# Altium integrated library Altera APEX 20KE.IntLib: 235 symbols (part 40 of 49)
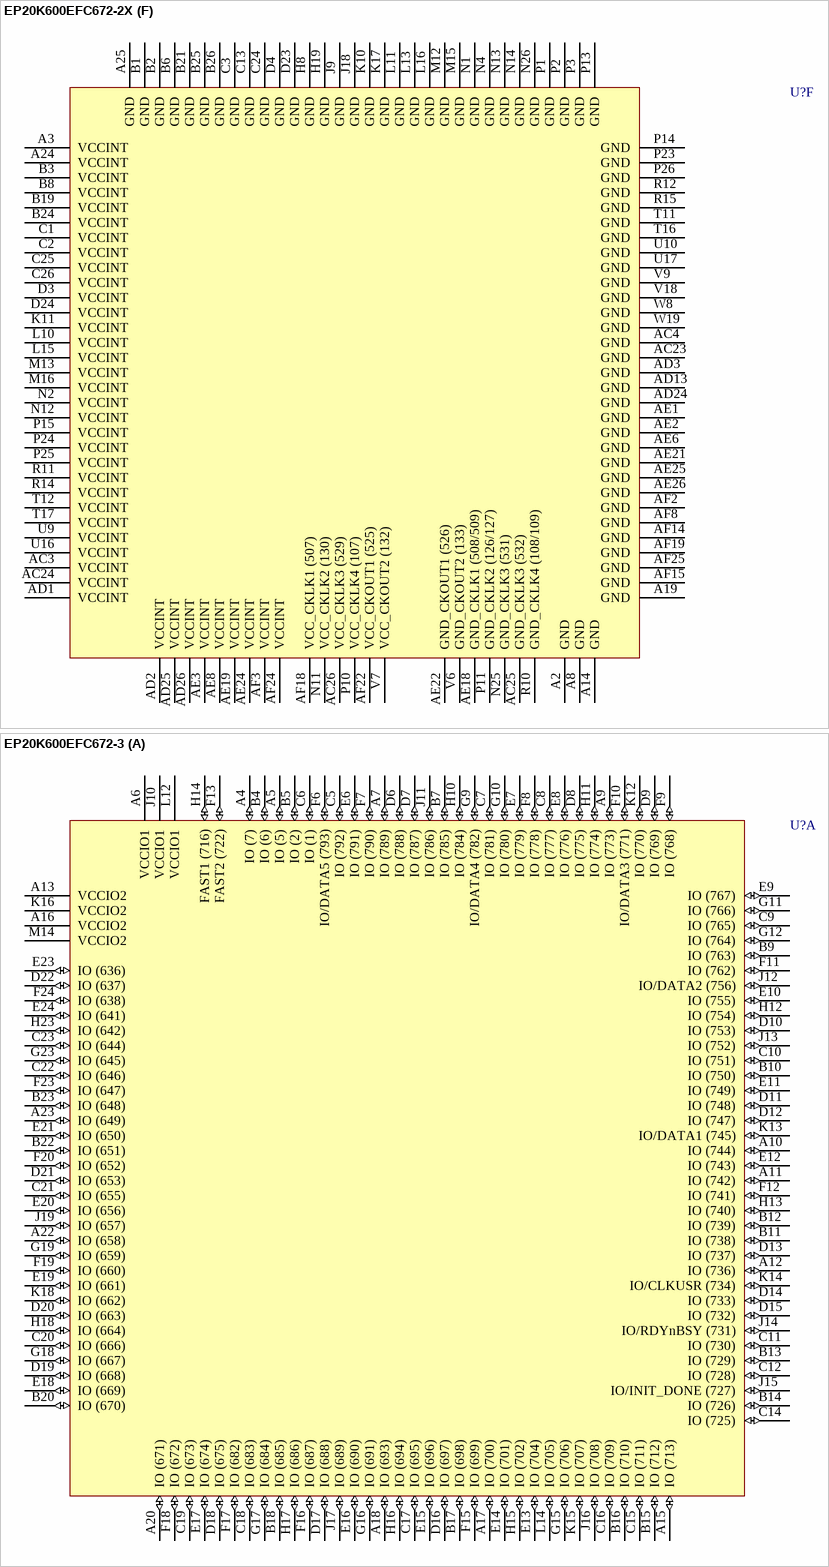
[diagram p438: symbols EP20K600EFC672-2X to EP20K600EFC672-3]

## EP20K1000EBC652-2X
designator U?
APEX 20K1000E PLD with PLLs and LVDS, 652-Pin BGA, Commercial Grade, Speed Grade 2; Published: 17-Jul-2002; LatestRevisionDate: 13-Apr-2006; LatestRevisionNote: IPC-7351 Footprint Added.; DatasheetVersion: Mar-2004; PackageVersion: ver14.1, Oct-2005; PackageReference: BGA652; Publisher: Altium Limited; PackageDescription: 652-Ball Ball Grid Array (BGA652); Code_JEDEC: MO-192-BAW-1; ComponentLink1Description: Manufacturer Link; ComponentLink1URL: http://www.altera.com/products/devices/apex/apx-index.html; ComponentLink2Description: Datasheet; ComponentLink2URL: http://www.altera.com/literature/ds/apex.pdf
footprint BGA652 (BGA, 652-Leads, Body 45x45mm, Pitch 1.27mm)
3D model EP20K1000E-BGA652TU (652-Ball Ball Grid Array (BGA652))
part A pins: A2 IO (935) (io), A3 IO (928) (io), A4 IO (920) (io), A5 IO (916) (io), A6 IO (905) (io), A7 IO (898) (io), A8 IO/DATA2 (887) (io), A9 IO (882) (io), A10 IO (873) (io), A11 IO (864) (io), A12 IO (860) (io), A13 IO (858) (io), A14 IO/RDYNBSY (847) (io), A15 IO (845) (io), A16 IO (838) (io), A20 IO (825) (io), A21 IO (818) (io), A22 IO (816) (io), A23 IO (805) (io), A24 IO (803) (io), A25 IO (799) (io), A26 IO (790) (io), A27 IO (781) (io), A28 IO (776) (io), A29 IO (764) (io), A30 IO (757) (io), A31 IO (746) (io), A32 IO (742) (io), A33 IO (734) (io), A34 IO (727) (io), B3 IO (938) (io), B4 IO (934) (io), B5 IO/DATA4 (924) (io), B6 IO (917) (io), B7 IO/DATA3 (907) (io), B8 IO (899) (io), B9 IO (893) (io), B10 IO (883) (io), B11 IO (878) (io), B12 IO (868) (io), B13 IO (861) (io), B14 IO (848) (io), B15 IO (846) (io), B16 IO (840) (io), B17 FAST2 (835) (io), B19 FAST1 (829) (io), B20 IO (823) (io), B21 IO (817) (io), B22 IO (815) (io), B23 IO (802) (io), B24 IO (795) (io), B25 IO (785) (io), B26 IO (780) (io), B27 IO (769) (io), B28 IO (763) (io), B29 IO (755) (io), B30 IO (745) (io), B31 IO (738) (io), B32 IO (728) (io), B33 IO (724) (io), C4 VCCIO1 (power), C5 IO (936) (io), C6 IO (930) (io), C7 IO (918) (io), C8 IO (910) (io), C9 IO (901) (io), C10 IO (895) (io), C11 IO (885) (io), C12 IO (879) (io), C13 IO/DATA1 (870) (io), C14 IO (862) (io), C15 IO/CLKUSR (852) (io), C16 IO/INIT_DONE (842) (io), C20 IO (821) (io), C21 IO (811) (io), C22 IO (801) (io), C23 IO (793) (io), C24 IO (784) (io), C25 IO (778) (io), C26 IO (767) (io), C27 IO (761) (io), C28 IO (752) (io), C29 IO (744) (io), C30 IO (732) (io), C31 IO (726) (io), C32 VCCIO2 (power), D5 VCCIO1 (power), D6 IO (940) (io), D7 IO (932) (io), D8 IO (919) (io), D9 IO (914) (io), D10 IO (902) (io), D11 IO (897) (io), D13 IO (880) (io), D14 IO (866) (io), D15 IO (856) (io), D16 IO (844) (io), D20 IO (819) (io), D21 IO (807) (io), D22 IO (797) (io), D23 IO (783) (io), D25 IO (765) (io), D26 IO (760) (io), D27 IO (748) (io), D28 IO (743) (io), D29 IO (730) (io), D30 IO (722) (io), D31 VCCIO2 (power), E7 IO/DATA5 (942) (io), E8 IO (933) (io), E9 IO (922) (io), E10 IO (912) (io), E11 IO (900) (io), E13 IO (881) (io), E14 IO (875) (io), E15 IO (863) (io), E16 IO (850) (io), E17 VCCIO1 (power), E19 VCCIO2 (power), E20 IO (813) (io), E21 IO (800) (io), E22 IO (788) (io), E23 IO (782) (io), E25 IO (762) (io), E26 IO (750) (io), E27 IO (740) (io), E28 IO (729) (io), E29 IO (720) (io)
part B pins: AA30 IO/LOCK1 (576) (io), AA32 IO (579) (io), AA33 IO (580) (io), AA34 IO (581) (io), AB30 IO (569) (io), AB31 IO (570) (io), AB32 IO (572) (io), AB33 IO (573) (io), AB34 IO (574) (io), AB35 IO (575) (io), AC30 IO (562) (io), AC31 IO (563) (io), AC33 IO (566) (io), AC34 IO (567) (io), AC35 IO (568) (io), AD30 IO (555) (io), AD31 IO (556) (io), AD32 IO (557) (io), AD33 IO (559) (io), AD34 IO (560) (io), AD35 IO (561) (io), AE30 IO (548) (io), AE31 IO (549) (io), AE32 IO (550) (io), AE34 IO (553) (io), AE35 IO (554) (io), AF30 IO (541) (io), AF31 IO (542) (io), AF32 IO (543) (io), AF33 IO (544) (io), AF34 IO (546) (io), AF35 IO (547) (io), AG30 IO (533) (io), AG31 IO (534) (io), AG32 IO (535) (io), AG33 IO (536) (io), AG34 IO (537) (io), AG35 IO (540) (io), AH30 IO (522) (io), AH32 IO (527) (io), AH33 IO (528) (io), AH34 IO (530) (io), AJ30 IO (501) (io), AJ31 IO (503) (io), AJ32 IO (507) (io), AJ33 IO (509) (io), AJ34 IO (520) (io), AJ35 IO (531) (io), AK30 IO (483) (io), AK31 IO (488) (io), AK32 IO (490) (io), AK34 IO (514) (io), AK35 IO (529) (io), AL31 VCCIO4 (power), AL32 VCCIO4 (power), AL33 IO (481) (io), AL34 IO (494) (io), AL35 IO (516) (io), AM35 IO (496) (io), D35 IO (700) (io), E34 IO (702) (io), E35 IO (683) (io), F30 VCCIO3 (power), F31 VCCIO3 (power), F32 IO (709) (io), F33 IO (707) (io), F34 IO (687) (io), G31 IO (696) (io), G32 IO (694) (io), G33 IO (689) (io), G34 IO (681) (io), G35 IO/LVDSRX16n (662) (io), H30 IO (676) (io), H31 IO (674) (io), H32 IO (670) (io), H33 IO (668) (io), H34 IO/LVDSRX16p (663) (io), H35 IO (655) (io), J30 IO (661) (io), J31 IO/LVDSRX15n (660) (io), J32 IO/LVDSRX15p (659) (io), J33 IO/LVDSRX14p (657) (io), J34 IO/LVDSRX14n (656) (io), J35 IO/LVDSRX13n (654) (io), K30 IO/LVDSRX13p (653) (io), K32 IO/LVDSRX12p (650) (io), K33 IO/LVDSRX12n (649) (io), K34 IO (648) (io), K35 IO/LVDSRX11n (647) (io), L30 IO/LVDSRX11p (646) (io), L31 IO/LVDSRX10p (644) (io), L32 IO/LVDSRX10n (643) (io), L33 IO (642) (io), L34 IO/LVDSRX09n (641) (io), L35 IO/LVDSRX09p (640) (io), M31 IO/LVDSRX08p (637) (io), M32 IO/LVDSRX08n (636) (io), M33 IO (635) (io), M34 IO/LVDSRX07n (634) (io), M35 IO/LVDSRX07p (633) (io), N30 IO/LVDSRX06p (631) (io), N31 IO/LVDSRX06n (630) (io), N32 IO (629) (io), N33 IO/LVDSRX05n (628) (io), N34 IO/LVDSRX05p (627) (io), P30 IO/LVDSRX04p (624) (io), P31 IO/LVDSRX04n (623) (io), P32 IO (622) (io), P33 IO/LVDSRX03n (621) (io), P34 IO/LVDSRX03p (620) (io), P35 IO/LVDSRX02p (618) (io), R30 IO/LVDSRX02n (617) (io), R31 IO/LOCK3 (616) (io), R32 IO/LVDSRX01n (615) (io), R33 IO/LVDSRX01p (614) (io), R35 IO (611) (io), T30 IO (610) (io), T31 IO/LVDSRXINCLK1n (609) (io), T32 IO/LVDSRXINCLK1p (608) (io), T35 IO/CLKLK_OUT1n (603) (io), U30 VCCIO3 (power), W30 VCCIO4 (power), W34 CLK1p (595) (in), Y31 IO/CLKLK_FB1n (586) (io), Y33 IO/CLK3n (588) (io), Y34 CLK3p (589) (in), Y35 IO/CLK1n (590) (io)
part C pins: AL7 IO (251) (io), AL8 IO (260) (io), AL9 IO (271) (io), AL10 IO (281) (io), AL11 IO (293) (io), AL13 IO (312) (io), AL14 IO (318) (io), AL15 IO (330) (io), AL16 IO (343) (io), AL17 VCCIO6 (power), AL19 VCCIO5 (power), AL20 IO (379) (io), AL21 IO (392) (io), AL22 IO (404) (io), AL23 IO (410) (io), AL25 IO (429) (io), AL26 IO (441) (io), AL27 IO (451) (io), AL28 IO (462) (io), AL29 IO (471) (io), AM5 VCCIO6 (power), AM6 IO (253) (io), AM7 IO (261) (io), AM8 IO (274) (io), AM9 IO (279) (io), AM10 IO (291) (io), AM11 IO (296) (io), AM13 IO (313) (io), AM14 IO (327) (io), AM15 IO (337) (io), AM16 IO/LVDSDESKEW (349) (io), AM20 IO (373) (io), AM21 IO (385) (io), AM22 IO (395) (io), AM23 IO (409) (io), AM25 IO (426) (io), AM26 IO (431) (io), AM27 IO (443) (io), AM28 IO (448) (io), AM29 IO (461) (io), AM30 IO (469) (io), AN4 VCCIO6 (power), AN5 IO (257) (io), AN6 IO (263) (io), AN7 IO (275) (io), AN8 IO (283) (io), AN9 IO (292) (io), AN10 IO (298) (io), AN11 IO (308) (io), AN12 IO (314) (io), AN13 IO (323) (io), AN14 IO (331) (io), AN15 IO (341) (io), AN16 IO (351) (io), AN20 IO (371) (io), AN21 IO (381) (io), AN22 IO (391) (io), AN23 IO (399) (io), AN24 IO (408) (io), AN25 IO (414) (io), AN26 IO (424) (io), AN27 IO (430) (io), AN28 IO (439) (io), AN29 IO (447) (io), AN30 IO (459) (io), AN31 IO (465) (io), AN32 VCCIO5 (power), AN33 VCCIO5 (power), AP3 IO (255) (io), AP4 IO (259) (io), AP5 IO (269) (io), AP6 IO (276) (io), AP7 IO (286) (io), AP8 IO (294) (io), AP9 IO (300) (io), AP10 IO (310) (io), AP11 IO (315) (io), AP12 IO (325) (io), AP13 IO (332) (io), AP14 IO (345) (io), AP15 IO (347) (io), AP16 IO (353) (io), AP17 FAST4 (358) (io), AP19 FAST3 (364) (io), AP20 IO (369) (io), AP21 IO (375) (io), AP22 IO (377) (io), AP23 IO (390) (io), AP24 IO (397) (io), AP25 IO (407) (io), AP26 IO (412) (io), AP27 IO (422) (io), AP28 IO (428) (io), AP29 IO (436) (io), AP30 IO (446) (io), AP31 IO (453) (io), AP32 IO (463) (io), AP33 IO (467) (io), AR2 IO (258) (io), AR3 IO (265) (io), AR4 IO (273) (io), AR5 IO (277) (io), AR6 IO (288) (io), AR7 IO (295) (io), AR8 IO (306) (io), AR9 IO (311) (io), AR10 IO (320) (io), AR11 IO (329) (io), AR12 IO (333) (io), AR13 IO (335) (io), AR14 IO (346) (io), AR15 IO (348) (io), AR16 IO (355) (io), AR20 IO (367) (io), AR21 IO (374) (io), AR22 IO (376) (io), AR23 IO (387) (io), AR24 IO (389) (io), AR25 IO (393) (io), AR26 IO (402) (io), AR27 IO (411) (io), AR28 IO (416) (io), AR29 IO (427) (io), AR30 IO (434) (io), AR31 IO (445) (io), AR32 IO (449) (io), AR33 IO (457) (io), AR34 IO (464) (io)
part D pins: AA1 IO (148) (io), AA2 IO/LVDSTXOUTCLK1n (142) (io), AA3 IO/LVDSTXOUTCLK1p (143) (io), AA5 IO/LVDSTX01p (146) (io), AA6 IO/LVDSTX01n (147) (io), AB1 IO (154) (io), AB2 IO/LVDSTX02n (149) (io), AB3 IO/LVDSTX02p (150) (io), AB4 IO/LVDSTX03p (152) (io), AB5 IO/LVDSTX03n (153) (io), AB6 IO/LOCK2 (141) (io), AC1 IO/LVDSTX04n (155) (io), AC2 IO/LVDSTX04p (156) (io), AC4 IO/LVDSTX05p (159) (io), AC5 IO/LVDSTX05n (160) (io), AC6 IO/LOCK4 (161) (io), AD1 IO/LVDSTX06n (162) (io), AD2 IO/LVDSTX06p (163) (io), AD3 IO/LVDSTX07p (165) (io), AD4 IO/LVDSTX07n (166) (io), AD5 IO (167) (io), AD6 IO/LVDSTX08n (168) (io), AE1 IO/LVDSTX08p (169) (io), AE3 IO/LVDSTX09p (172) (io), AE4 IO/LVDSTX09n (173) (io), AE5 IO (174) (io), AE6 IO/LVDSTX10n (175) (io), AF1 IO/LVDSTX10p (176) (io), AF2 IO/LVDSTX11p (178) (io), AF3 IO/LVDSTX11n (179) (io), AF4 IO (180) (io), AF5 IO/LVDSTX12n (181) (io), AF6 IO/LVDSTX12p (182) (io), AG2 IO/LVDSTX13n (186) (io), AG3 IO (187) (io), AG4 IO/LVDSTX14n (188) (io), AG5 IO/LVDSTX14p (189) (io), AG6 IO/LVDSTX15p (191) (io), AH1 IO/LVDSTX13p (185) (io), AH2 IO (193) (io), AH3 IO/LVDSTX16p (195) (io), AH5 IO (200) (io), AH6 IO (202) (io), AJ1 IO/LVDSTX15n (192) (io), AJ2 IO (206) (io), AJ3 IO (215) (io), AJ4 IO (219) (io), AJ5 IO (221) (io), AJ6 IO (226) (io), AK1 IO/LVDSTX16n (194) (io), AK2 IO (213) (io), AK3 IO (232) (io), AK4 IO (234) (io), AK5 IO (239) (io), AK6 IO (241) (io), AL1 IO (208) (io), AL3 VCCIO7 (power), AL4 VCCIO7 (power), AM1 IO (228) (io), C1 IO (20) (io), D1 IO (24) (io), E1 IO (46) (io), E2 IO (26) (io), E3 VCCIO8 (power), E4 VCCIO8 (power), F1 IO (59) (io), F2 IO (44) (io), F4 IO (18) (io), F5 IO (13) (io), F6 IO (11) (io), G1 IO (61) (io), G2 IO (50) (io), G3 IO (39) (io), G4 IO (37) (io), G5 IO (33) (io), G6 IO (31) (io), H2 IO (60) (io), H3 IO (58) (io), H4 IO (57) (io), H6 IO (52) (io), J1 IO (70) (io), J2 IO (67) (io), J3 IO (66) (io), J4 IO (65) (io), J5 IO (64) (io), J6 IO (63) (io), K1 IO (77) (io), K2 IO (76) (io), K3 IO (74) (io), K4 IO (73) (io), K5 IO (72) (io), K6 IO (71) (io), L1 IO (84) (io), L2 IO (83) (io), L4 IO (80) (io), L5 IO (79) (io), L6 IO/DATA6 (78) (io), M1 IO/nWS (91) (io), M2 IO (90) (io), M3 IO (89) (io), M4 IO (87) (io), M5 IO (86) (io), M6 IO/DATA7 (85) (io), N1 IO/nRS (98) (io), N2 IO (97) (io), N3 IO (96) (io), N5 IO (93) (io), N6 IO (92) (io), P1 IO (105) (io), P2 IO/nCS (104) (io), P3 IO (103) (io), P4 IO (102) (io), P5 IO (100) (io), P6 IO (99) (io), R1 IO (113) (io), R2 IO/CS (112) (io), R6 IO (106) (io), T1 IO/CLK2n (120) (io), T2 CLK4p (119) (in), T3 IO/CLK4n (118) (io), T5 IO/CLKLK_FB2n (116) (io), T6 IO/DEV_CLRn (114) (io), U2 CLK2p (125) (in), U6 VCCIO8 (power), W5 IO/LVDSTXINCLK1p (139) (io), W6 VCCIO7 (power), Y4 IO/CLKLK_OUT2n (137) (io), Y5 IO/DEV_OE (133) (io), Y6 IO/LVDSTXINCLK1n (140) (io)
part E pins: AM17 CONF_DONE (356) (io), AM19 TMS (366) (in), AN17 nSTATUS (357) (io), AN19 TCK (365) (in), C17 TDO (836) (out), C19 nCEO (828) (out), D19 TRST (827) (in), T4 CLKLK_FB2p (117) (in), U1 nCE (126) (in), U3 DCLK (124) (in), U4 DATA0 (123) (in), U31 CLKLK_OUT1p (602) (out), U35 MSEL0 (597) (in), W1 TDI (127) (in), W32 nCONFIG (593) (in), W33 CLKLK_ENA (594) (in), W35 MSEL1 (596) (in), Y3 CLKLK_OUT2p (136) (out), Y32 CLKLK_FB1p (587) (in)
part F pins: A1 GND (power), A17 VCCINT (power), A18 GND (power), A19 VCCINT (power), A35 GND (power), AA4 VCCINT (power), AA31 VCCINT (power), AA35 VCC_CKLK1 (582) (power), AC3 VCCINT (power), AC32 VCCINT (power), AE2 VCCINT (power), AE33 VCCINT (power), AG1 VCCINT (power), AH4 VCCINT (power), AH31 VCCINT (power), AH35 VCCINT (power), AK18 GND (power), AK33 VCCINT (power), AL2 VCCINT (power), AL5 GND (power), AL6 GND (power), AL12 VCCINT (power), AL18 GND (power), AL24 VCCINT (power), AL30 GND (power), AM2 GND (power), AM3 GND (power), AM4 GND (power), AM12 VCCINT (power), AM18 GND (power), AM24 VCCINT (power), AM31 GND (power), AM32 GND (power), AM33 GND (power), AM34 GND (power), AN1 GND (power), AN2 GND (power), AN3 GND (power), AN18 GND (power), AN34 GND (power), AN35 GND (power), AP1 GND (power), AP2 GND (power), AP18 GND (power), AP34 GND (power), AP35 GND (power), AR1 GND (power), AR17 VCCINT (power), AR18 GND (power), AR19 VCCINT (power), AR35 GND (power), B1 GND (power), B2 GND (power), B18 GND (power), B34 GND (power), B35 GND (power), C2 GND (power), C3 GND (power), C18 GND (power), C33 GND (power), C34 GND (power), C35 GND (power), D2 GND (power), D3 GND (power), D4 GND (power), D12 VCCINT (power), D17 GND (power), D18 GND (power), D24 VCCINT (power), D32 GND (power), D33 GND (power), D34 GND (power), E5 GND (power), E6 GND (power), E12 VCCINT (power), E18 GND (power), E24 VCCINT (power), E30 GND (power), E31 GND (power), E32 GND (power), E33 GND (power), F3 VCCINT (power), F18 GND (power), F35 VCCINT (power), G30 VCCINT (power), H1 VCCINT (power), H5 VCCINT (power), K31 VCCINT (power), L3 VCCINT (power), M30 VCCINT (power), N4 VCCINT (power), N35 VCCINT (power), R3 GND_CKLK4 (110/111) (power), R4 VCC_CKLK4 (109) (power), R5 VCCINT (power), R34 VCCINT (power), T33 GND_CKLK3 (607) (power), T34 VCC_CKLK3 (604) (power), U5 VCCINT (power), U32 GND_CKOUT1 (601) (power), U33 VCC_CKOUT1 (600) (power), U34 VCCINT (power), V1 GND (power), V2 GND (power), V3 GND (power), V4 GND (power), V5 GND (power), V6 GND (power), V30 GND (power), V31 GND (power), V32 GND (power), V33 GND (power), V34 GND (power), V35 GND_CKLK3 (606) (power), W2 GND_CKLK2 (128/129) (power), W3 VCCINT (power), W4 VCC_CKLK2 (132) (power), W31 VCCINT (power), Y1 VCC_CKOUT2 (134) (power), Y2 GND_CKOUT2 (135) (power), Y30 GND_CKLK1 (583/584) (power)

## EP20K1000EBC652-3
designator U?
APEX 20K1000E PLD, 652-Pin BGA, Commercial Grade, Speed Grade 3; Published: 17-Jul-2002; LatestRevisionDate: 13-Apr-2006; LatestRevisionNote: IPC-7351 Footprint Added.; DatasheetVersion: Mar-2004; PackageVersion: ver14.1, Oct-2005; PackageReference: BGA652; Publisher: Altium Limited; PackageDescription: 652-Ball Ball Grid Array (BGA652); Code_JEDEC: MO-192-BAW-1; ComponentLink1Description: Manufacturer Link; ComponentLink1URL: http://www.altera.com/products/devices/apex/apx-index.html; ComponentLink2Description: Datasheet; ComponentLink2URL: http://www.altera.com/literature/ds/apex.pdf
footprint BGA652 (BGA, 652-Leads, Body 45x45mm, Pitch 1.27mm)
3D model EP20K1000E-BGA652TU (652-Ball Ball Grid Array (BGA652))
part A pins: A2 IO (935) (io), A3 IO (928) (io), A4 IO (920) (io), A5 IO (916) (io), A6 IO (905) (io), A7 IO (898) (io), A8 IO/DATA2 (887) (io), A9 IO (882) (io), A10 IO (873) (io), A11 IO (864) (io), A12 IO (860) (io), A13 IO (858) (io), A14 IO/RDYNBSY (847) (io), A15 IO (845) (io), A16 IO (838) (io), A20 IO (825) (io), A21 IO (818) (io), A22 IO (816) (io), A23 IO (805) (io), A24 IO (803) (io), A25 IO (799) (io), A26 IO (790) (io), A27 IO (781) (io), A28 IO (776) (io), A29 IO (764) (io), A30 IO (757) (io), A31 IO (746) (io), A32 IO (742) (io), A33 IO (734) (io), A34 IO (727) (io), B3 IO (938) (io), B4 IO (934) (io), B5 IO/DATA4 (924) (io), B6 IO (917) (io), B7 IO/DATA3 (907) (io), B8 IO (899) (io), B9 IO (893) (io), B10 IO (883) (io), B11 IO (878) (io), B12 IO (868) (io), B13 IO (861) (io), B14 IO (848) (io), B15 IO (846) (io), B16 IO (840) (io), B17 FAST2 (835) (io), B19 FAST1 (829) (io), B20 IO (823) (io), B21 IO (817) (io), B22 IO (815) (io), B23 IO (802) (io), B24 IO (795) (io), B25 IO (785) (io), B26 IO (780) (io), B27 IO (769) (io), B28 IO (763) (io), B29 IO (755) (io), B30 IO (745) (io), B31 IO (738) (io), B32 IO (728) (io), B33 IO (724) (io), C4 VCCIO1 (power), C5 IO (936) (io), C6 IO (930) (io), C7 IO (918) (io), C8 IO (910) (io), C9 IO (901) (io), C10 IO (895) (io), C11 IO (885) (io), C12 IO (879) (io), C13 IO/DATA1 (870) (io), C14 IO (862) (io), C15 IO/CLKUSR (852) (io), C16 IO/INIT_DONE (842) (io), C20 IO (821) (io), C21 IO (811) (io), C22 IO (801) (io), C23 IO (793) (io), C24 IO (784) (io), C25 IO (778) (io), C26 IO (767) (io), C27 IO (761) (io), C28 IO (752) (io), C29 IO (744) (io), C30 IO (732) (io), C31 IO (726) (io), C32 VCCIO2 (power), D5 VCCIO1 (power), D6 IO (940) (io), D7 IO (932) (io), D8 IO (919) (io), D9 IO (914) (io), D10 IO (902) (io), D11 IO (897) (io), D13 IO (880) (io), D14 IO (866) (io), D15 IO (856) (io), D16 IO (844) (io), D20 IO (819) (io), D21 IO (807) (io), D22 IO (797) (io), D23 IO (783) (io), D25 IO (765) (io), D26 IO (760) (io), D27 IO (748) (io), D28 IO (743) (io), D29 IO (730) (io), D30 IO (722) (io), D31 VCCIO2 (power), E7 IO/DATA5 (942) (io), E8 IO (933) (io), E9 IO (922) (io), E10 IO (912) (io), E11 IO (900) (io), E13 IO (881) (io), E14 IO (875) (io), E15 IO (863) (io), E16 IO (850) (io), E17 VCCIO1 (power), E19 VCCIO2 (power), E20 IO (813) (io), E21 IO (800) (io), E22 IO (788) (io), E23 IO (782) (io), E25 IO (762) (io), E26 IO (750) (io), E27 IO (740) (io), E28 IO (729) (io), E29 IO (720) (io)
part B pins: AA30 IO/LOCK1 (576) (io), AA32 IO (579) (io), AA33 IO (580) (io), AA34 IO (581) (io), AB30 IO (569) (io), AB31 IO (570) (io), AB32 IO (572) (io), AB33 IO (573) (io), AB34 IO (574) (io), AB35 IO (575) (io), AC30 IO (562) (io), AC31 IO (563) (io), AC33 IO (566) (io), AC34 IO (567) (io), AC35 IO (568) (io), AD30 IO (555) (io), AD31 IO (556) (io), AD32 IO (557) (io), AD33 IO (559) (io), AD34 IO (560) (io), AD35 IO (561) (io), AE30 IO (548) (io), AE31 IO (549) (io), AE32 IO (550) (io), AE34 IO (553) (io), AE35 IO (554) (io), AF30 IO (541) (io), AF31 IO (542) (io), AF32 IO (543) (io), AF33 IO (544) (io), AF34 IO (546) (io), AF35 IO (547) (io), AG30 IO (533) (io), AG31 IO (534) (io), AG32 IO (535) (io), AG33 IO (536) (io), AG34 IO (537) (io), AG35 IO (540) (io), AH30 IO (522) (io), AH32 IO (527) (io), AH33 IO (528) (io), AH34 IO (530) (io), AJ30 IO (501) (io), AJ31 IO (503) (io), AJ32 IO (507) (io), AJ33 IO (509) (io), AJ34 IO (520) (io), AJ35 IO (531) (io), AK30 IO (483) (io), AK31 IO (488) (io), AK32 IO (490) (io), AK34 IO (514) (io), AK35 IO (529) (io), AL31 VCCIO4 (power), AL32 VCCIO4 (power), AL33 IO (481) (io), AL34 IO (494) (io), AL35 IO (516) (io), AM35 IO (496) (io), D35 IO (700) (io), E34 IO (702) (io), E35 IO (683) (io), F30 VCCIO3 (power), F31 VCCIO3 (power), F32 IO (709) (io), F33 IO (707) (io), F34 IO (687) (io), G31 IO (696) (io), G32 IO (694) (io), G33 IO (689) (io), G34 IO (681) (io), G35 IO/LVDSRX16n (662) (io), H30 IO (676) (io), H31 IO (674) (io), H32 IO (670) (io), H33 IO (668) (io), H34 IO/LVDSRX16p (663) (io), H35 IO (655) (io), J30 IO (661) (io), J31 IO/LVDSRX15n (660) (io), J32 IO/LVDSRX15p (659) (io), J33 IO/LVDSRX14p (657) (io), J34 IO/LVDSRX14n (656) (io), J35 IO/LVDSRX13n (654) (io), K30 IO/LVDSRX13p (653) (io), K32 IO/LVDSRX12p (650) (io), K33 IO/LVDSRX12n (649) (io), K34 IO (648) (io), K35 IO/LVDSRX11n (647) (io), L30 IO/LVDSRX11p (646) (io), L31 IO/LVDSRX10p (644) (io), L32 IO/LVDSRX10n (643) (io), L33 IO (642) (io), L34 IO/LVDSRX09n (641) (io), L35 IO/LVDSRX09p (640) (io), M31 IO/LVDSRX08p (637) (io), M32 IO/LVDSRX08n (636) (io), M33 IO (635) (io), M34 IO/LVDSRX07n (634) (io), M35 IO/LVDSRX07p (633) (io), N30 IO/LVDSRX06p (631) (io), N31 IO/LVDSRX06n (630) (io), N32 IO (629) (io), N33 IO/LVDSRX05n (628) (io), N34 IO/LVDSRX05p (627) (io), P30 IO/LVDSRX04p (624) (io), P31 IO/LVDSRX04n (623) (io), P32 IO (622) (io), P33 IO/LVDSRX03n (621) (io), P34 IO/LVDSRX03p (620) (io), P35 IO/LVDSRX02p (618) (io), R30 IO/LVDSRX02n (617) (io), R31 IO/LOCK3 (616) (io), R32 IO/LVDSRX01n (615) (io), R33 IO/LVDSRX01p (614) (io), R35 IO (611) (io), T30 IO (610) (io), T31 IO/LVDSRXINCLK1n (609) (io), T32 IO/LVDSRXINCLK1p (608) (io), T35 IO/CLKLK_OUT1n (603) (io), U30 VCCIO3 (power), W30 VCCIO4 (power), W34 CLK1p (595) (in), Y31 IO/CLKLK_FB1n (586) (io), Y33 IO/CLK3n (588) (io), Y34 CLK3p (589) (in), Y35 IO/CLK1n (590) (io)
part C pins: AL7 IO (251) (io), AL8 IO (260) (io), AL9 IO (271) (io), AL10 IO (281) (io), AL11 IO (293) (io), AL13 IO (312) (io), AL14 IO (318) (io), AL15 IO (330) (io), AL16 IO (343) (io), AL17 VCCIO6 (power), AL19 VCCIO5 (power), AL20 IO (379) (io), AL21 IO (392) (io), AL22 IO (404) (io), AL23 IO (410) (io), AL25 IO (429) (io), AL26 IO (441) (io), AL27 IO (451) (io), AL28 IO (462) (io), AL29 IO (471) (io), AM5 VCCIO6 (power), AM6 IO (253) (io), AM7 IO (261) (io), AM8 IO (274) (io), AM9 IO (279) (io), AM10 IO (291) (io), AM11 IO (296) (io), AM13 IO (313) (io), AM14 IO (327) (io), AM15 IO (337) (io), AM16 IO/LVDSDESKEW (349) (io), AM20 IO (373) (io), AM21 IO (385) (io), AM22 IO (395) (io), AM23 IO (409) (io), AM25 IO (426) (io), AM26 IO (431) (io), AM27 IO (443) (io), AM28 IO (448) (io), AM29 IO (461) (io), AM30 IO (469) (io), AN4 VCCIO6 (power), AN5 IO (257) (io), AN6 IO (263) (io), AN7 IO (275) (io), AN8 IO (283) (io), AN9 IO (292) (io), AN10 IO (298) (io), AN11 IO (308) (io), AN12 IO (314) (io), AN13 IO (323) (io), AN14 IO (331) (io), AN15 IO (341) (io), AN16 IO (351) (io), AN20 IO (371) (io), AN21 IO (381) (io), AN22 IO (391) (io), AN23 IO (399) (io), AN24 IO (408) (io), AN25 IO (414) (io), AN26 IO (424) (io), AN27 IO (430) (io), AN28 IO (439) (io), AN29 IO (447) (io), AN30 IO (459) (io), AN31 IO (465) (io), AN32 VCCIO5 (power), AN33 VCCIO5 (power), AP3 IO (255) (io), AP4 IO (259) (io), AP5 IO (269) (io), AP6 IO (276) (io), AP7 IO (286) (io), AP8 IO (294) (io), AP9 IO (300) (io), AP10 IO (310) (io), AP11 IO (315) (io), AP12 IO (325) (io), AP13 IO (332) (io), AP14 IO (345) (io), AP15 IO (347) (io), AP16 IO (353) (io), AP17 FAST4 (358) (io), AP19 FAST3 (364) (io), AP20 IO (369) (io), AP21 IO (375) (io), AP22 IO (377) (io), AP23 IO (390) (io), AP24 IO (397) (io), AP25 IO (407) (io), AP26 IO (412) (io), AP27 IO (422) (io), AP28 IO (428) (io), AP29 IO (436) (io), AP30 IO (446) (io), AP31 IO (453) (io), AP32 IO (463) (io), AP33 IO (467) (io), AR2 IO (258) (io), AR3 IO (265) (io), AR4 IO (273) (io), AR5 IO (277) (io), AR6 IO (288) (io), AR7 IO (295) (io), AR8 IO (306) (io), AR9 IO (311) (io), AR10 IO (320) (io), AR11 IO (329) (io), AR12 IO (333) (io), AR13 IO (335) (io), AR14 IO (346) (io), AR15 IO (348) (io), AR16 IO (355) (io), AR20 IO (367) (io), AR21 IO (374) (io), AR22 IO (376) (io), AR23 IO (387) (io), AR24 IO (389) (io), AR25 IO (393) (io), AR26 IO (402) (io), AR27 IO (411) (io), AR28 IO (416) (io), AR29 IO (427) (io), AR30 IO (434) (io), AR31 IO (445) (io), AR32 IO (449) (io), AR33 IO (457) (io), AR34 IO (464) (io)
part D pins: AA1 IO (148) (io), AA2 IO/LVDSTXOUTCLK1n (142) (io), AA3 IO/LVDSTXOUTCLK1p (143) (io), AA5 IO/LVDSTX01p (146) (io), AA6 IO/LVDSTX01n (147) (io), AB1 IO (154) (io), AB2 IO/LVDSTX02n (149) (io), AB3 IO/LVDSTX02p (150) (io), AB4 IO/LVDSTX03p (152) (io), AB5 IO/LVDSTX03n (153) (io), AB6 IO/LOCK2 (141) (io), AC1 IO/LVDSTX04n (155) (io), AC2 IO/LVDSTX04p (156) (io), AC4 IO/LVDSTX05p (159) (io), AC5 IO/LVDSTX05n (160) (io), AC6 IO/LOCK4 (161) (io), AD1 IO/LVDSTX06n (162) (io), AD2 IO/LVDSTX06p (163) (io), AD3 IO/LVDSTX07p (165) (io), AD4 IO/LVDSTX07n (166) (io), AD5 IO (167) (io), AD6 IO/LVDSTX08n (168) (io), AE1 IO/LVDSTX08p (169) (io), AE3 IO/LVDSTX09p (172) (io), AE4 IO/LVDSTX09n (173) (io), AE5 IO (174) (io), AE6 IO/LVDSTX10n (175) (io), AF1 IO/LVDSTX10p (176) (io), AF2 IO/LVDSTX11p (178) (io), AF3 IO/LVDSTX11n (179) (io), AF4 IO (180) (io), AF5 IO/LVDSTX12n (181) (io), AF6 IO/LVDSTX12p (182) (io), AG2 IO/LVDSTX13n (186) (io), AG3 IO (187) (io), AG4 IO/LVDSTX14n (188) (io), AG5 IO/LVDSTX14p (189) (io), AG6 IO/LVDSTX15p (191) (io), AH1 IO/LVDSTX13p (185) (io), AH2 IO (193) (io), AH3 IO/LVDSTX16p (195) (io), AH5 IO (200) (io), AH6 IO (202) (io), AJ1 IO/LVDSTX15n (192) (io), AJ2 IO (206) (io), AJ3 IO (215) (io), AJ4 IO (219) (io), AJ5 IO (221) (io), AJ6 IO (226) (io), AK1 IO/LVDSTX16n (194) (io), AK2 IO (213) (io), AK3 IO (232) (io), AK4 IO (234) (io), AK5 IO (239) (io), AK6 IO (241) (io), AL1 IO (208) (io), AL3 VCCIO7 (power), AL4 VCCIO7 (power), AM1 IO (228) (io), C1 IO (20) (io), D1 IO (24) (io), E1 IO (46) (io), E2 IO (26) (io), E3 VCCIO8 (power), E4 VCCIO8 (power), F1 IO (59) (io), F2 IO (44) (io), F4 IO (18) (io), F5 IO (13) (io), F6 IO (11) (io), G1 IO (61) (io), G2 IO (50) (io), G3 IO (39) (io), G4 IO (37) (io), G5 IO (33) (io), G6 IO (31) (io), H2 IO (60) (io), H3 IO (58) (io), H4 IO (57) (io), H6 IO (52) (io), J1 IO (70) (io), J2 IO (67) (io), J3 IO (66) (io), J4 IO (65) (io), J5 IO (64) (io), J6 IO (63) (io), K1 IO (77) (io), K2 IO (76) (io), K3 IO (74) (io), K4 IO (73) (io), K5 IO (72) (io), K6 IO (71) (io), L1 IO (84) (io), L2 IO (83) (io), L4 IO (80) (io), L5 IO (79) (io), L6 IO/DATA6 (78) (io), M1 IO/nWS (91) (io), M2 IO (90) (io), M3 IO (89) (io), M4 IO (87) (io), M5 IO (86) (io), M6 IO/DATA7 (85) (io), N1 IO/nRS (98) (io), N2 IO (97) (io), N3 IO (96) (io), N5 IO (93) (io), N6 IO (92) (io), P1 IO (105) (io), P2 IO/nCS (104) (io), P3 IO (103) (io), P4 IO (102) (io), P5 IO (100) (io), P6 IO (99) (io), R1 IO (113) (io), R2 IO/CS (112) (io), R6 IO (106) (io), T1 IO/CLK2n (120) (io), T2 CLK4p (119) (in), T3 IO/CLK4n (118) (io), T5 IO/CLKLK_FB2n (116) (io), T6 IO/DEV_CLRn (114) (io), U2 CLK2p (125) (in), U6 VCCIO8 (power), W5 IO/LVDSTXINCLK1p (139) (io), W6 VCCIO7 (power), Y4 IO/CLKLK_OUT2n (137) (io), Y5 IO/DEV_OE (133) (io), Y6 IO/LVDSTXINCLK1n (140) (io)
part E pins: AM17 CONF_DONE (356) (io), AM19 TMS (366) (in), AN17 nSTATUS (357) (io), AN19 TCK (365) (in), C17 TDO (836) (out), C19 nCEO (828) (out), D19 TRST (827) (in), T4 CLKLK_FB2p (117) (in), U1 nCE (126) (in), U3 DCLK (124) (in), U4 DATA0 (123) (in), U31 CLKLK_OUT1p (602) (out), U35 MSEL0 (597) (in), W1 TDI (127) (in), W32 nCONFIG (593) (in), W33 CLKLK_ENA (594) (in), W35 MSEL1 (596) (in), Y3 CLKLK_OUT2p (136) (out), Y32 CLKLK_FB1p (587) (in)
part F pins: A1 GND (power), A17 VCCINT (power), A18 GND (power), A19 VCCINT (power), A35 GND (power), AA4 VCCINT (power), AA31 VCCINT (power), AA35 VCC_CKLK1 (582) (power), AC3 VCCINT (power), AC32 VCCINT (power), AE2 VCCINT (power), AE33 VCCINT (power), AG1 VCCINT (power), AH4 VCCINT (power), AH31 VCCINT (power), AH35 VCCINT (power), AK18 GND (power), AK33 VCCINT (power), AL2 VCCINT (power), AL5 GND (power), AL6 GND (power), AL12 VCCINT (power), AL18 GND (power), AL24 VCCINT (power), AL30 GND (power), AM2 GND (power), AM3 GND (power), AM4 GND (power), AM12 VCCINT (power), AM18 GND (power), AM24 VCCINT (power), AM31 GND (power), AM32 GND (power), AM33 GND (power), AM34 GND (power), AN1 GND (power), AN2 GND (power), AN3 GND (power), AN18 GND (power), AN34 GND (power), AN35 GND (power), AP1 GND (power), AP2 GND (power), AP18 GND (power), AP34 GND (power), AP35 GND (power), AR1 GND (power), AR17 VCCINT (power), AR18 GND (power), AR19 VCCINT (power), AR35 GND (power), B1 GND (power), B2 GND (power), B18 GND (power), B34 GND (power), B35 GND (power), C2 GND (power), C3 GND (power), C18 GND (power), C33 GND (power), C34 GND (power), C35 GND (power), D2 GND (power), D3 GND (power), D4 GND (power), D12 VCCINT (power), D17 GND (power), D18 GND (power), D24 VCCINT (power), D32 GND (power), D33 GND (power), D34 GND (power), E5 GND (power), E6 GND (power), E12 VCCINT (power), E18 GND (power), E24 VCCINT (power), E30 GND (power), E31 GND (power), E32 GND (power), E33 GND (power), F3 VCCINT (power), F18 GND (power), F35 VCCINT (power), G30 VCCINT (power), H1 VCCINT (power), H5 VCCINT (power), K31 VCCINT (power), L3 VCCINT (power), M30 VCCINT (power), N4 VCCINT (power), N35 VCCINT (power), R3 GND_CKLK4 (110/111) (power), R4 VCC_CKLK4 (109) (power), R5 VCCINT (power), R34 VCCINT (power), T33 GND_CKLK3 (607) (power), T34 VCC_CKLK3 (604) (power), U5 VCCINT (power), U32 GND_CKOUT1 (601) (power), U33 VCC_CKOUT1 (600) (power), U34 VCCINT (power), V1 GND (power), V2 GND (power), V3 GND (power), V4 GND (power), V5 GND (power), V6 GND (power), V30 GND (power), V31 GND (power), V32 GND (power), V33 GND (power), V34 GND (power), V35 GND_CKLK3 (606) (power), W2 GND_CKLK2 (128/129) (power), W3 VCCINT (power), W4 VCC_CKLK2 (132) (power), W31 VCCINT (power), Y1 VCC_CKOUT2 (134) (power), Y2 GND_CKOUT2 (135) (power), Y30 GND_CKLK1 (583/584) (power)

## EP20K1000EBI652-2X
designator U?
APEX 20K1000E PLD with PLLs and LVDS, 652-Pin BGA, Industrial Grade, Speed Grade 2; Published: 17-Jul-2002; LatestRevisionDate: 13-Apr-2006; LatestRevisionNote: IPC-7351 Footprint Added.; DatasheetVersion: Mar-2004; PackageVersion: ver14.1, Oct-2005; PackageReference: BGA652; Publisher: Altium Limited; PackageDescription: 652-Ball Ball Grid Array (BGA652); Code_JEDEC: MO-192-BAW-1; ComponentLink1Description: Manufacturer Link; ComponentLink1URL: http://www.altera.com/products/devices/apex/apx-index.html; ComponentLink2Description: Datasheet; ComponentLink2URL: http://www.altera.com/literature/ds/apex.pdf
footprint BGA652 (BGA, 652-Leads, Body 45x45mm, Pitch 1.27mm)
3D model EP20K1000E-BGA652TU (652-Ball Ball Grid Array (BGA652))
part A pins: A2 IO (935) (io), A3 IO (928) (io), A4 IO (920) (io), A5 IO (916) (io), A6 IO (905) (io), A7 IO (898) (io), A8 IO/DATA2 (887) (io), A9 IO (882) (io), A10 IO (873) (io), A11 IO (864) (io), A12 IO (860) (io), A13 IO (858) (io), A14 IO/RDYNBSY (847) (io), A15 IO (845) (io), A16 IO (838) (io), A20 IO (825) (io), A21 IO (818) (io), A22 IO (816) (io), A23 IO (805) (io), A24 IO (803) (io), A25 IO (799) (io), A26 IO (790) (io), A27 IO (781) (io), A28 IO (776) (io), A29 IO (764) (io), A30 IO (757) (io), A31 IO (746) (io), A32 IO (742) (io), A33 IO (734) (io), A34 IO (727) (io), B3 IO (938) (io), B4 IO (934) (io), B5 IO/DATA4 (924) (io), B6 IO (917) (io), B7 IO/DATA3 (907) (io), B8 IO (899) (io), B9 IO (893) (io), B10 IO (883) (io), B11 IO (878) (io), B12 IO (868) (io), B13 IO (861) (io), B14 IO (848) (io), B15 IO (846) (io), B16 IO (840) (io), B17 FAST2 (835) (io), B19 FAST1 (829) (io), B20 IO (823) (io), B21 IO (817) (io), B22 IO (815) (io), B23 IO (802) (io), B24 IO (795) (io), B25 IO (785) (io), B26 IO (780) (io), B27 IO (769) (io), B28 IO (763) (io), B29 IO (755) (io), B30 IO (745) (io), B31 IO (738) (io), B32 IO (728) (io), B33 IO (724) (io), C4 VCCIO1 (power), C5 IO (936) (io), C6 IO (930) (io), C7 IO (918) (io), C8 IO (910) (io), C9 IO (901) (io), C10 IO (895) (io), C11 IO (885) (io), C12 IO (879) (io), C13 IO/DATA1 (870) (io), C14 IO (862) (io), C15 IO/CLKUSR (852) (io), C16 IO/INIT_DONE (842) (io), C20 IO (821) (io), C21 IO (811) (io), C22 IO (801) (io), C23 IO (793) (io), C24 IO (784) (io), C25 IO (778) (io), C26 IO (767) (io), C27 IO (761) (io), C28 IO (752) (io), C29 IO (744) (io), C30 IO (732) (io), C31 IO (726) (io), C32 VCCIO2 (power), D5 VCCIO1 (power), D6 IO (940) (io), D7 IO (932) (io), D8 IO (919) (io), D9 IO (914) (io), D10 IO (902) (io), D11 IO (897) (io), D13 IO (880) (io), D14 IO (866) (io), D15 IO (856) (io), D16 IO (844) (io), D20 IO (819) (io), D21 IO (807) (io), D22 IO (797) (io), D23 IO (783) (io), D25 IO (765) (io), D26 IO (760) (io), D27 IO (748) (io), D28 IO (743) (io), D29 IO (730) (io), D30 IO (722) (io), D31 VCCIO2 (power), E7 IO/DATA5 (942) (io), E8 IO (933) (io), E9 IO (922) (io), E10 IO (912) (io), E11 IO (900) (io), E13 IO (881) (io), E14 IO (875) (io), E15 IO (863) (io), E16 IO (850) (io), E17 VCCIO1 (power), E19 VCCIO2 (power), E20 IO (813) (io), E21 IO (800) (io), E22 IO (788) (io), E23 IO (782) (io), E25 IO (762) (io), E26 IO (750) (io), E27 IO (740) (io), E28 IO (729) (io), E29 IO (720) (io)
part B pins: AA30 IO/LOCK1 (576) (io), AA32 IO (579) (io), AA33 IO (580) (io), AA34 IO (581) (io), AB30 IO (569) (io), AB31 IO (570) (io), AB32 IO (572) (io), AB33 IO (573) (io), AB34 IO (574) (io), AB35 IO (575) (io), AC30 IO (562) (io), AC31 IO (563) (io), AC33 IO (566) (io), AC34 IO (567) (io), AC35 IO (568) (io), AD30 IO (555) (io), AD31 IO (556) (io), AD32 IO (557) (io), AD33 IO (559) (io), AD34 IO (560) (io), AD35 IO (561) (io), AE30 IO (548) (io), AE31 IO (549) (io), AE32 IO (550) (io), AE34 IO (553) (io), AE35 IO (554) (io), AF30 IO (541) (io), AF31 IO (542) (io), AF32 IO (543) (io), AF33 IO (544) (io), AF34 IO (546) (io), AF35 IO (547) (io), AG30 IO (533) (io), AG31 IO (534) (io), AG32 IO (535) (io), AG33 IO (536) (io), AG34 IO (537) (io), AG35 IO (540) (io), AH30 IO (522) (io), AH32 IO (527) (io), AH33 IO (528) (io), AH34 IO (530) (io), AJ30 IO (501) (io), AJ31 IO (503) (io), AJ32 IO (507) (io), AJ33 IO (509) (io), AJ34 IO (520) (io), AJ35 IO (531) (io), AK30 IO (483) (io), AK31 IO (488) (io), AK32 IO (490) (io), AK34 IO (514) (io), AK35 IO (529) (io), AL31 VCCIO4 (power), AL32 VCCIO4 (power), AL33 IO (481) (io), AL34 IO (494) (io), AL35 IO (516) (io), AM35 IO (496) (io), D35 IO (700) (io), E34 IO (702) (io), E35 IO (683) (io), F30 VCCIO3 (power), F31 VCCIO3 (power), F32 IO (709) (io), F33 IO (707) (io), F34 IO (687) (io), G31 IO (696) (io), G32 IO (694) (io), G33 IO (689) (io), G34 IO (681) (io), G35 IO/LVDSRX16n (662) (io), H30 IO (676) (io), H31 IO (674) (io), H32 IO (670) (io), H33 IO (668) (io), H34 IO/LVDSRX16p (663) (io), H35 IO (655) (io), J30 IO (661) (io), J31 IO/LVDSRX15n (660) (io), J32 IO/LVDSRX15p (659) (io), J33 IO/LVDSRX14p (657) (io), J34 IO/LVDSRX14n (656) (io), J35 IO/LVDSRX13n (654) (io), K30 IO/LVDSRX13p (653) (io), K32 IO/LVDSRX12p (650) (io), K33 IO/LVDSRX12n (649) (io), K34 IO (648) (io), K35 IO/LVDSRX11n (647) (io), L30 IO/LVDSRX11p (646) (io), L31 IO/LVDSRX10p (644) (io), L32 IO/LVDSRX10n (643) (io), L33 IO (642) (io), L34 IO/LVDSRX09n (641) (io), L35 IO/LVDSRX09p (640) (io), M31 IO/LVDSRX08p (637) (io), M32 IO/LVDSRX08n (636) (io), M33 IO (635) (io), M34 IO/LVDSRX07n (634) (io), M35 IO/LVDSRX07p (633) (io), N30 IO/LVDSRX06p (631) (io), N31 IO/LVDSRX06n (630) (io), N32 IO (629) (io), N33 IO/LVDSRX05n (628) (io), N34 IO/LVDSRX05p (627) (io), P30 IO/LVDSRX04p (624) (io), P31 IO/LVDSRX04n (623) (io), P32 IO (622) (io), P33 IO/LVDSRX03n (621) (io), P34 IO/LVDSRX03p (620) (io), P35 IO/LVDSRX02p (618) (io), R30 IO/LVDSRX02n (617) (io), R31 IO/LOCK3 (616) (io), R32 IO/LVDSRX01n (615) (io), R33 IO/LVDSRX01p (614) (io), R35 IO (611) (io), T30 IO (610) (io), T31 IO/LVDSRXINCLK1n (609) (io), T32 IO/LVDSRXINCLK1p (608) (io), T35 IO/CLKLK_OUT1n (603) (io), U30 VCCIO3 (power), W30 VCCIO4 (power), W34 CLK1p (595) (in), Y31 IO/CLKLK_FB1n (586) (io), Y33 IO/CLK3n (588) (io), Y34 CLK3p (589) (in), Y35 IO/CLK1n (590) (io)
part C pins: AL7 IO (251) (io), AL8 IO (260) (io), AL9 IO (271) (io), AL10 IO (281) (io), AL11 IO (293) (io), AL13 IO (312) (io), AL14 IO (318) (io), AL15 IO (330) (io), AL16 IO (343) (io), AL17 VCCIO6 (power), AL19 VCCIO5 (power), AL20 IO (379) (io), AL21 IO (392) (io), AL22 IO (404) (io), AL23 IO (410) (io), AL25 IO (429) (io), AL26 IO (441) (io), AL27 IO (451) (io), AL28 IO (462) (io), AL29 IO (471) (io), AM5 VCCIO6 (power), AM6 IO (253) (io), AM7 IO (261) (io), AM8 IO (274) (io), AM9 IO (279) (io), AM10 IO (291) (io), AM11 IO (296) (io), AM13 IO (313) (io), AM14 IO (327) (io), AM15 IO (337) (io), AM16 IO/LVDSDESKEW (349) (io), AM20 IO (373) (io), AM21 IO (385) (io), AM22 IO (395) (io), AM23 IO (409) (io), AM25 IO (426) (io), AM26 IO (431) (io), AM27 IO (443) (io), AM28 IO (448) (io), AM29 IO (461) (io), AM30 IO (469) (io), AN4 VCCIO6 (power), AN5 IO (257) (io), AN6 IO (263) (io), AN7 IO (275) (io), AN8 IO (283) (io), AN9 IO (292) (io), AN10 IO (298) (io), AN11 IO (308) (io), AN12 IO (314) (io), AN13 IO (323) (io), AN14 IO (331) (io), AN15 IO (341) (io), AN16 IO (351) (io), AN20 IO (371) (io), AN21 IO (381) (io), AN22 IO (391) (io), AN23 IO (399) (io), AN24 IO (408) (io), AN25 IO (414) (io), AN26 IO (424) (io), AN27 IO (430) (io), AN28 IO (439) (io), AN29 IO (447) (io), AN30 IO (459) (io), AN31 IO (465) (io), AN32 VCCIO5 (power), AN33 VCCIO5 (power), AP3 IO (255) (io), AP4 IO (259) (io), AP5 IO (269) (io), AP6 IO (276) (io), AP7 IO (286) (io), AP8 IO (294) (io), AP9 IO (300) (io), AP10 IO (310) (io), AP11 IO (315) (io), AP12 IO (325) (io), AP13 IO (332) (io), AP14 IO (345) (io), AP15 IO (347) (io), AP16 IO (353) (io), AP17 FAST4 (358) (io), AP19 FAST3 (364) (io), AP20 IO (369) (io), AP21 IO (375) (io), AP22 IO (377) (io), AP23 IO (390) (io), AP24 IO (397) (io), AP25 IO (407) (io), AP26 IO (412) (io), AP27 IO (422) (io), AP28 IO (428) (io), AP29 IO (436) (io), AP30 IO (446) (io), AP31 IO (453) (io), AP32 IO (463) (io), AP33 IO (467) (io), AR2 IO (258) (io), AR3 IO (265) (io), AR4 IO (273) (io), AR5 IO (277) (io), AR6 IO (288) (io), AR7 IO (295) (io), AR8 IO (306) (io), AR9 IO (311) (io), AR10 IO (320) (io), AR11 IO (329) (io), AR12 IO (333) (io), AR13 IO (335) (io), AR14 IO (346) (io), AR15 IO (348) (io), AR16 IO (355) (io), AR20 IO (367) (io), AR21 IO (374) (io), AR22 IO (376) (io), AR23 IO (387) (io), AR24 IO (389) (io), AR25 IO (393) (io), AR26 IO (402) (io), AR27 IO (411) (io), AR28 IO (416) (io), AR29 IO (427) (io), AR30 IO (434) (io), AR31 IO (445) (io), AR32 IO (449) (io), AR33 IO (457) (io), AR34 IO (464) (io)
part D pins: AA1 IO (148) (io), AA2 IO/LVDSTXOUTCLK1n (142) (io), AA3 IO/LVDSTXOUTCLK1p (143) (io), AA5 IO/LVDSTX01p (146) (io), AA6 IO/LVDSTX01n (147) (io), AB1 IO (154) (io), AB2 IO/LVDSTX02n (149) (io), AB3 IO/LVDSTX02p (150) (io), AB4 IO/LVDSTX03p (152) (io), AB5 IO/LVDSTX03n (153) (io), AB6 IO/LOCK2 (141) (io), AC1 IO/LVDSTX04n (155) (io), AC2 IO/LVDSTX04p (156) (io), AC4 IO/LVDSTX05p (159) (io), AC5 IO/LVDSTX05n (160) (io), AC6 IO/LOCK4 (161) (io), AD1 IO/LVDSTX06n (162) (io), AD2 IO/LVDSTX06p (163) (io), AD3 IO/LVDSTX07p (165) (io), AD4 IO/LVDSTX07n (166) (io), AD5 IO (167) (io), AD6 IO/LVDSTX08n (168) (io), AE1 IO/LVDSTX08p (169) (io), AE3 IO/LVDSTX09p (172) (io), AE4 IO/LVDSTX09n (173) (io), AE5 IO (174) (io), AE6 IO/LVDSTX10n (175) (io), AF1 IO/LVDSTX10p (176) (io), AF2 IO/LVDSTX11p (178) (io), AF3 IO/LVDSTX11n (179) (io), AF4 IO (180) (io), AF5 IO/LVDSTX12n (181) (io), AF6 IO/LVDSTX12p (182) (io), AG2 IO/LVDSTX13n (186) (io), AG3 IO (187) (io), AG4 IO/LVDSTX14n (188) (io), AG5 IO/LVDSTX14p (189) (io), AG6 IO/LVDSTX15p (191) (io), AH1 IO/LVDSTX13p (185) (io), AH2 IO (193) (io), AH3 IO/LVDSTX16p (195) (io), AH5 IO (200) (io), AH6 IO (202) (io), AJ1 IO/LVDSTX15n (192) (io), AJ2 IO (206) (io), AJ3 IO (215) (io), AJ4 IO (219) (io), AJ5 IO (221) (io), AJ6 IO (226) (io), AK1 IO/LVDSTX16n (194) (io), AK2 IO (213) (io), AK3 IO (232) (io), AK4 IO (234) (io), AK5 IO (239) (io), AK6 IO (241) (io), AL1 IO (208) (io), AL3 VCCIO7 (power), AL4 VCCIO7 (power), AM1 IO (228) (io), C1 IO (20) (io), D1 IO (24) (io), E1 IO (46) (io), E2 IO (26) (io), E3 VCCIO8 (power), E4 VCCIO8 (power), F1 IO (59) (io), F2 IO (44) (io), F4 IO (18) (io), F5 IO (13) (io), F6 IO (11) (io), G1 IO (61) (io), G2 IO (50) (io), G3 IO (39) (io), G4 IO (37) (io), G5 IO (33) (io), G6 IO (31) (io), H2 IO (60) (io), H3 IO (58) (io), H4 IO (57) (io), H6 IO (52) (io), J1 IO (70) (io), J2 IO (67) (io), J3 IO (66) (io), J4 IO (65) (io), J5 IO (64) (io), J6 IO (63) (io), K1 IO (77) (io), K2 IO (76) (io), K3 IO (74) (io), K4 IO (73) (io), K5 IO (72) (io), K6 IO (71) (io), L1 IO (84) (io), L2 IO (83) (io), L4 IO (80) (io), L5 IO (79) (io), L6 IO/DATA6 (78) (io), M1 IO/nWS (91) (io), M2 IO (90) (io), M3 IO (89) (io), M4 IO (87) (io), M5 IO (86) (io), M6 IO/DATA7 (85) (io), N1 IO/nRS (98) (io), N2 IO (97) (io), N3 IO (96) (io), N5 IO (93) (io), N6 IO (92) (io), P1 IO (105) (io), P2 IO/nCS (104) (io), P3 IO (103) (io), P4 IO (102) (io), P5 IO (100) (io), P6 IO (99) (io), R1 IO (113) (io), R2 IO/CS (112) (io), R6 IO (106) (io), T1 IO/CLK2n (120) (io), T2 CLK4p (119) (in), T3 IO/CLK4n (118) (io), T5 IO/CLKLK_FB2n (116) (io), T6 IO/DEV_CLRn (114) (io), U2 CLK2p (125) (in), U6 VCCIO8 (power), W5 IO/LVDSTXINCLK1p (139) (io), W6 VCCIO7 (power), Y4 IO/CLKLK_OUT2n (137) (io), Y5 IO/DEV_OE (133) (io), Y6 IO/LVDSTXINCLK1n (140) (io)
part E pins: AM17 CONF_DONE (356) (io), AM19 TMS (366) (in), AN17 nSTATUS (357) (io), AN19 TCK (365) (in), C17 TDO (836) (out), C19 nCEO (828) (out), D19 TRST (827) (in), T4 CLKLK_FB2p (117) (in), U1 nCE (126) (in), U3 DCLK (124) (in), U4 DATA0 (123) (in), U31 CLKLK_OUT1p (602) (out), U35 MSEL0 (597) (in), W1 TDI (127) (in), W32 nCONFIG (593) (in), W33 CLKLK_ENA (594) (in), W35 MSEL1 (596) (in), Y3 CLKLK_OUT2p (136) (out), Y32 CLKLK_FB1p (587) (in)
part F pins: A1 GND (power), A17 VCCINT (power), A18 GND (power), A19 VCCINT (power), A35 GND (power), AA4 VCCINT (power), AA31 VCCINT (power), AA35 VCC_CKLK1 (582) (power), AC3 VCCINT (power), AC32 VCCINT (power), AE2 VCCINT (power), AE33 VCCINT (power), AG1 VCCINT (power), AH4 VCCINT (power), AH31 VCCINT (power), AH35 VCCINT (power), AK18 GND (power), AK33 VCCINT (power), AL2 VCCINT (power), AL5 GND (power), AL6 GND (power), AL12 VCCINT (power), AL18 GND (power), AL24 VCCINT (power), AL30 GND (power), AM2 GND (power), AM3 GND (power), AM4 GND (power), AM12 VCCINT (power), AM18 GND (power), AM24 VCCINT (power), AM31 GND (power), AM32 GND (power), AM33 GND (power), AM34 GND (power), AN1 GND (power), AN2 GND (power), AN3 GND (power), AN18 GND (power), AN34 GND (power), AN35 GND (power), AP1 GND (power), AP2 GND (power), AP18 GND (power), AP34 GND (power), AP35 GND (power), AR1 GND (power), AR17 VCCINT (power), AR18 GND (power), AR19 VCCINT (power), AR35 GND (power), B1 GND (power), B2 GND (power), B18 GND (power), B34 GND (power), B35 GND (power), C2 GND (power), C3 GND (power), C18 GND (power), C33 GND (power), C34 GND (power), C35 GND (power), D2 GND (power), D3 GND (power), D4 GND (power), D12 VCCINT (power), D17 GND (power), D18 GND (power), D24 VCCINT (power), D32 GND (power), D33 GND (power), D34 GND (power), E5 GND (power), E6 GND (power), E12 VCCINT (power), E18 GND (power), E24 VCCINT (power), E30 GND (power), E31 GND (power), E32 GND (power), E33 GND (power), F3 VCCINT (power), F18 GND (power), F35 VCCINT (power), G30 VCCINT (power), H1 VCCINT (power), H5 VCCINT (power), K31 VCCINT (power), L3 VCCINT (power), M30 VCCINT (power), N4 VCCINT (power), N35 VCCINT (power), R3 GND_CKLK4 (110/111) (power), R4 VCC_CKLK4 (109) (power), R5 VCCINT (power), R34 VCCINT (power), T33 GND_CKLK3 (607) (power), T34 VCC_CKLK3 (604) (power), U5 VCCINT (power), U32 GND_CKOUT1 (601) (power), U33 VCC_CKOUT1 (600) (power), U34 VCCINT (power), V1 GND (power), V2 GND (power), V3 GND (power), V4 GND (power), V5 GND (power), V6 GND (power), V30 GND (power), V31 GND (power), V32 GND (power), V33 GND (power), V34 GND (power), V35 GND_CKLK3 (606) (power), W2 GND_CKLK2 (128/129) (power), W3 VCCINT (power), W4 VCC_CKLK2 (132) (power), W31 VCCINT (power), Y1 VCC_CKOUT2 (134) (power), Y2 GND_CKOUT2 (135) (power), Y30 GND_CKLK1 (583/584) (power)